# Altium footprint library FERRITES.PcbLib: 4 footprints
Each footprint in its own frame and in the unit in brackets; x right, y up, seen from the top. Pads: shape width x height; smd on the part's side, far side on the other; paste and mask are expansions set on the pad; w line width, h text height; cw(c..) or ccw(c..) is an arc to the next point about the centre after c.
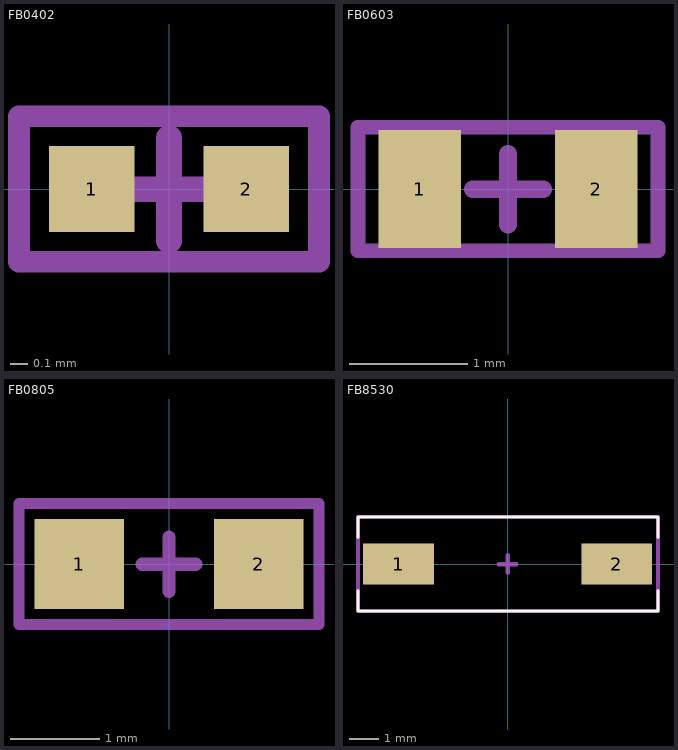
[diagram p0: the footprints below, top view; thin cyan lines are the x and y axes]

## FB0402 [mm]
pads (2):
  rect 0.5x0.5 smd: 1(-0.45,0) 2(0.45,0)
Top Assembly:
  lines w0.127: -0.875,-0.425 0.875,-0.425 0.875,0.425 -0.875,0.425 -0.875,-0.425
  text ".Designator" at -0.7,-0.3 h0.5
Top Component Center:
  lines w0.15: -0.3,-0.002 0.3,-0.002 ; 0,-0.302 0,0.298
3D body: height 0.55, standoff 0, extent -0.5,-0.25 0.5,0.25
3D body: height 0.56, standoff 0, extent -0.51,-0.263 -0.41,0.262
3D body: height 0.56, standoff 0, extent 0.41,-0.264 0.51,0.262

## FB0603 [mm]
pads (2):
  rect 0.7x1 smd: 1(-0.75,0) 2(0.75,0)
Top Assembly:
  lines w0.127: -1.275,-0.525 -1.275,0.525 1.275,0.525 1.275,-0.525 -1.275,-0.525
  text ".Designator" at -0.925,-0.3 h0.5
Top Component Center:
  lines w0.15: -0.3,-0.002 0.3,-0.002 ; 0,-0.302 0,0.298
3D body: height 0.55, standoff 0, extent 0.41,-0.362 0.81,0.362
3D body: height 0.55, standoff 0, extent -0.81,-0.362 -0.41,0.362
3D body: height 0.5, standoff 0, extent -0.8,-0.35 0.8,0.35

## FB0805 [mm]
pads (2):
  rect 1x1 smd: 1(-1,0) 2(1,0)
Top Assembly:
  lines w0.127: -1.675,-0.675 1.675,-0.675 1.675,0.675 -1.675,0.675 -1.675,-0.675
  text ".Designator" at -1.275,-0.225 h0.5
Top Component Center:
  lines w0.15: -0.3,-0.002 0.3,-0.002 ; 0,-0.302 0,0.298
3D body: height 1.2, standoff 0, extent -1.15,-0.6 1.15,0.6
3D body: height 1.21, standoff 0, extent 0.665,-0.625 1.165,0.625
3D body: height 1.21, standoff 0, extent -1.165,-0.625 -0.665,0.625

## FB8530 [mm]
pads (2):
  rect 2.4x1.4 smd: 1(-3.7,0) 2(3.7,0)
Top Overlay:
  lines w0.1: -5.075,-0.9 -5.075,-1.6 5.1,-1.6 5.1,-0.9 ; -5.075,0.9 -5.075,1.6 5.1,1.6 5.1,0.9
Top Assembly:
  lines w0.127: -5.075,-1.6 5.1,-1.6 5.1,1.6 -5.075,1.6 -5.075,-1.6
  text ".Designator" at -2.725,-0.275 h0.7
Top Component Center:
  lines w0.15: -0.3,-0.002 0.3,-0.002 ; 0,-0.302 0,0.298
3D body: height 1.21, standoff 0, extent 4,-0.5 4.5,0.5
3D body: height 2.54, standoff 0.1, extent -4.25,-1.524 4.25,1.524
3D body: height 1.21, standoff 0, extent -4.5,-0.5 -4,0.5